# Altium footprint library PCB - LEADED - SOT - ON SEMI SOT-323.PCBLIB: 1 footprints
Each footprint in its own frame and in the unit in brackets; x right, y up, seen from the top. Pads: shape width x height; smd on the part's side, far side on the other; paste and mask are expansions set on the pad; w line width, h text height; cw(c..) or ccw(c..) is an arc to the next point about the centre after c.
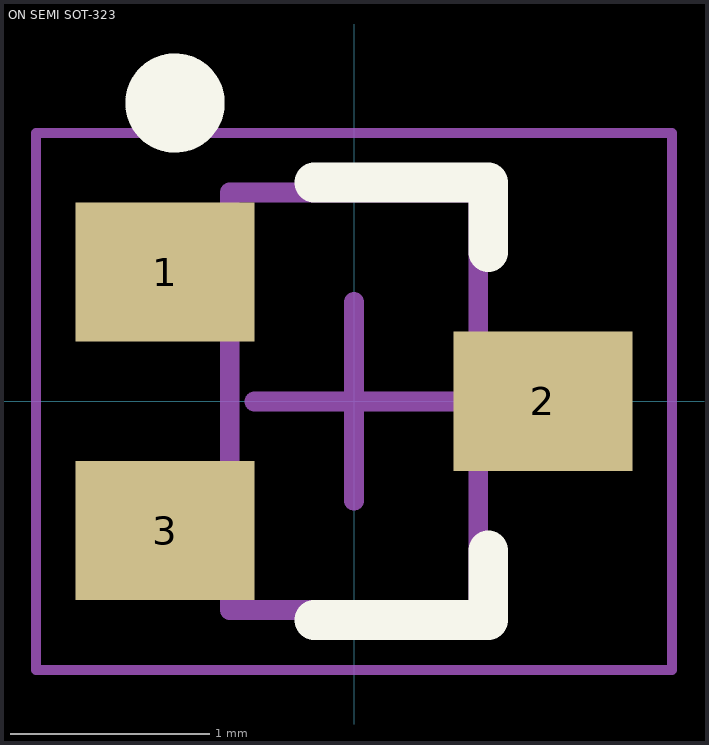
[diagram p0: the footprint, top view; thin cyan lines are the x and y axes]

## ON SEMI SOT-323 [mm] "SOT323, 3-Leads, Body 2.00x2.10mm, Pitch 0.65mm, IPC Medium Density"
height 1
pads (3):
  rect 0.9x0.7 smd: 1(-0.95,0.65) 2(0.95,0) 3(-0.95,-0.65)
Top Overlay:
  circle w0.25: c-0.9,1.5 r0.125
  lines w0.2: -0.2,-1.1 0.675,-1.1 0.675,-0.75 ; -0.2,1.1 0.675,1.1 0.675,0.75
Mechanical 13:
  lines w0.1: 0.625,1.05 0.625,1.05 ; 0.625,1.05 -0.625,1.05 -0.625,-1.05 0.625,-1.05 0.625,1.05
Mechanical 15:
  lines w0.05: -1.6,-1.35 1.6,-1.35 1.6,1.35 -1.6,1.35 -1.6,-1.35
Mechanical 2 (Mech9):
  lines w0.1: -0.5,0 0.5,0 ; 0,-0.5 0,0.5
3D body "ON Semiconductor - SOT323 v1.step": height 1, standoff 0, extent -1.05,-1.05 1.05,1.05